# EAGLE library part 634108185521 (library Wurth-USB)
Modular Jack SMT Horizontal Plastic 8P8C Tab Down WR-MJ KIND PROPERTIES: Quality Class 750 Mating cycles MATERIAL PROPERTIES: Insulator Material PA9T Insulator Flammability Rating UL94 V-0 Insulator Color Black Contact Material Copper Alloy Contact Plating Selective Gold Contact Type Stamped GENERAL PROPERTIES: Operating Temperature -40 °C up to +85 °C Compliance Lead free / RoHS ELECTRICAL PROPERTIES: Rated Current [1] 1.5 A Withstanding Voltage 1000 V (AC) Contact Resistance 35 mΩ Insulation Resistance 1000 MΩ STANDARD: UL Approval E324776 PACKAGING PROPERTIES: Packaging Tape and Reel & Mylar Packaging Unit (Qty.) 120 mm <http://katalog.we-online.de/media/images/v2/Family_WR-MJ_634108185521.jpg> Details see: http://katalog.we-online.de/em/datasheet/634108185521.pdf Created 2017-11-28, Yingchun,Shan 2017(C) Würth Elektronik
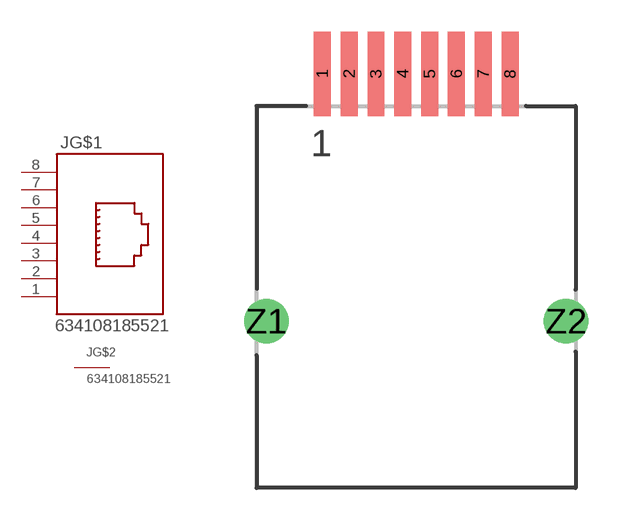
[diagram p179: symbol with the pads of 634108185521; footprint 634108185521]

Designator prefix J; gates G$1=4X4-4 G$2=SHIELD

## 634108185521  [634108185521]
1  G$1:1  pas
2  G$1:2  pas
3  G$1:3  pas
4  G$1:4  pas
5  G$1:5  pas
6  G$1:6  pas
7  G$1:7  pas
8  G$1:8  pas
Z1  G$2:SHIELD  pas
Z2  G$2:SHIELD  pas

## Footprint 634108185521 (pad centres in mm)
smd 0.8 x 4: 1 -4.445,11.72; 2 -3.175,11.72; 3 -1.905,11.72; 4 -0.635,11.72; 5 0.635,11.72; 6 1.905,11.72; 7 3.175,11.72; 8 4.445,11.72
drill 1.4: Z1 -7.095,0; Z2 7.095,0